# Altium integrated library OPA388IDR.IntLib: 1 symbol
Pins are listed as number, name and electrical type; pins without a type are passive.

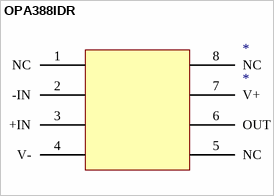
[diagram p0: symbol OPA388IDR]

## OPA388IDR
designator *
footprint SOIC127P600X175-8N (SOIC, 8-Leads, Body 4.90x3.90mm, Pitch 1.27mm, IPC Medium Density)
pins: 1 NC, 2 -IN, 3 +IN, 4 V-, 5 NC, 6 OUT, 7 V+, 8 NC